# EAGLE library part IFX1763XEJV50 (library my-eagle-lib)
IFX1763XEJV50 The IFX1763 V50 is a micropower, low noise, low dropout 5 V voltage regulator. The device is capable of supplying an output current of 500 mA with a dropout voltage of 350 mV. Designed for use in battery-powered systems, the low quiescent current of 30 µA makes it an ideal choice. This is the SOIC-8 with body pad (PG-DSO-8 Exposed Pad) package variant Datasheet: https://www.infineon.com/dgdl/Infineon-IFX1763_V50-DS-v01_11-EN.pdf?fileId=5546d4624bbf60fb014bcaa8e8c04f28
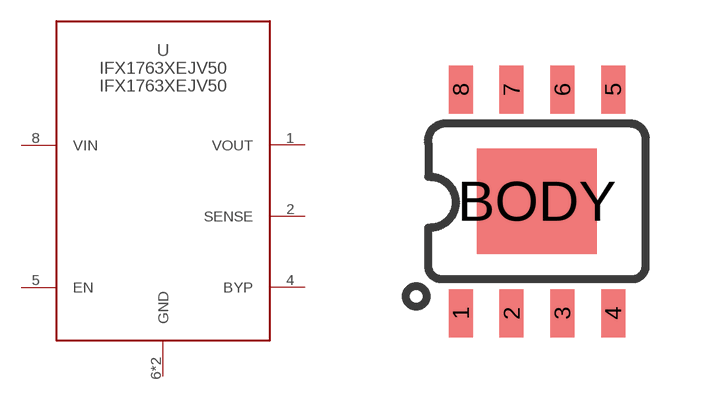
[diagram p5: symbol with the pads of PG-DSO-8; footprint PG-DSO-8]

Designator prefix -

## IFX1763XEJV50  [PG-DSO-8]
1  VOUT  pwr
2  SENSE  in
4  BYP  in
5  EN  in
6  GND  pwr
8  VIN  pwr
BODY  GND  pwr

## Footprint PG-DSO-8 (pad centres in mm)
SOIC, 0.15 inch width
smd 0.6 x 1.2: 1 -1.905,-2.8; 2 -0.635,-2.8; 3 0.635,-2.8; 4 1.905,-2.8; 5 1.905,2.8; 6 0.635,2.8; 7 -0.635,2.8; 8 -1.905,2.8
smd 2.997 x 2.642: BODY 0,0